# Altium footprint library Synthiam-roundtrip.PcbLib: 483 footprints (part 30 of 31)
Each footprint in its own frame and in the unit in brackets; x right, y up, seen from the top. Pads: shape width x height; smd on the part's side, far side on the other; paste and mask are expansions set on the pad; w line width, h text height; cw(c..) or ccw(c..) is an arc to the next point about the centre after c.
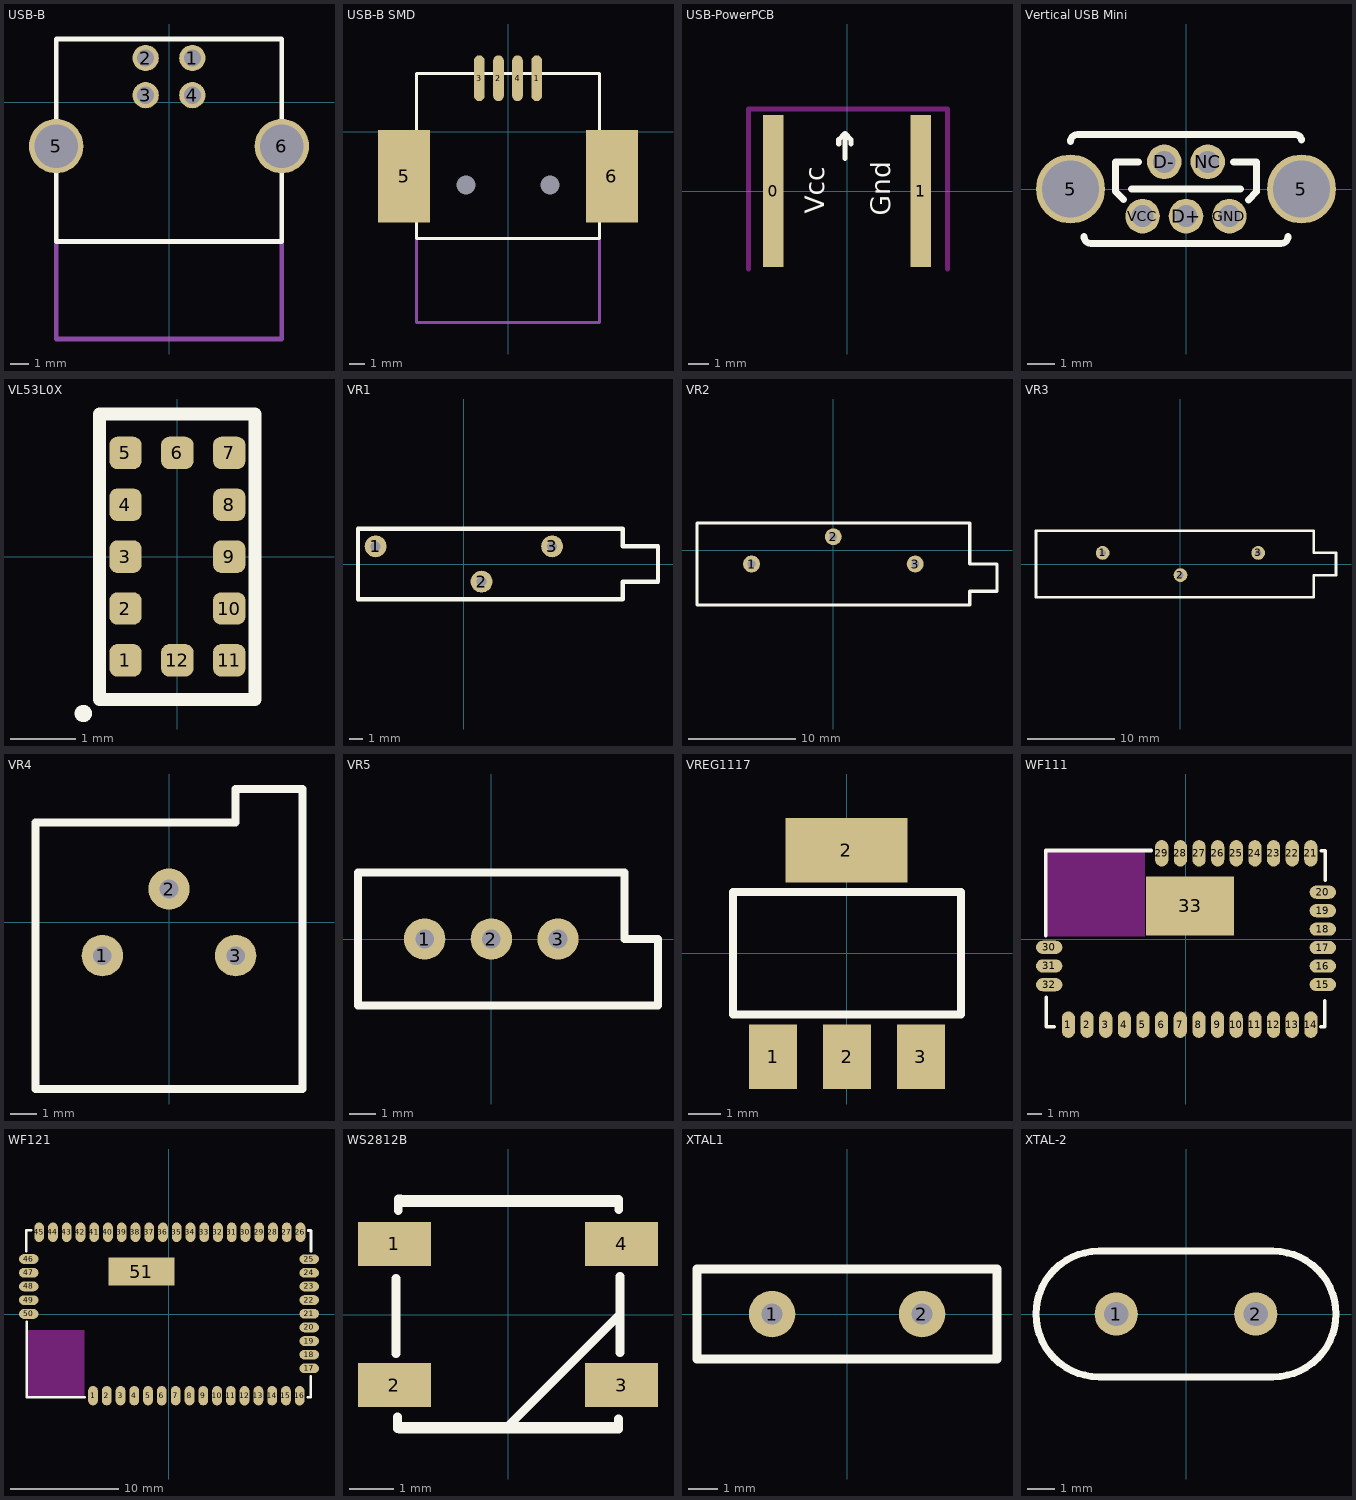
[diagram p29: the footprints below, top view; thin cyan lines are the x and y axes]

## USB-B [mil]
pads (6):
  round 55 hole 36: 1(49,92.5) 2(-49,92.5) 3(-49,14.5) 4(49,14.5)
  round 114.17 hole 91: 5(-237,-92.5) 6(237,-92.5)
Top Overlay:
  lines w10: -237,-292.5 -237,132.5 237,132.5 237,-292.5 -237,-292.5
Mechanical 1:
  lines w10: -237,-292.5 -237,-497.5 237,-497.5 237,-292.5

## USB-B SMD [mm]
pads (8):
  round 0 hole 1.25: 0(-2.75,-3.5) 0(2.75,-3.5)
  oval 0.7x3 smd: 1(1.875,3.5) 2(-0.625,3.5) 3(-1.875,3.5) 4(0.625,3.5)
  rect 3.4x6.04 smd: 5(-6.8,-2.92) 6(6.8,-2.92)
Top Overlay:
  lines w0.203: -6,-7 -6,3.8 6,3.8 6,-7 -6,-7
Mechanical 1:
  lines w0.203: -6,-7 -6,-12.5 6,-12.5 6,-7

## USB-PowerPCB [mm]
pads (2):
  rect 1x7.41 smd: 0(-3.6,0) 1(3.6,0)
Top Overlay:
  lines w0.254: -0.4,2.3 -0.4,2.5 -0.1,2.8 ; -0.1,1.6 -0.1,2.8 ; 0.2,2.3 0.2,2.5 -0.1,2.8
  text "Vcc" at -1.1,-1.1 h0.94
  text "Gnd" at 2.1,-1.2 h0.94
Keep-Out Layer:
  lines w0.254: -4.8,-3.8 -4.8,4 4.9,4 4.9,-3.8

## Vertical USB Mini [mm]
pads (7):
  round 2.54 hole 2.108: 5(-4.25,0) 5(4.25,0)
  round 1.27 hole 0.813: D+(0,-1) D-(-0.8,1) GND(1.6,-1) NC(0.8,1) VCC(-1.6,-1)
Top Overlay:
  lines w0.254: -4.25,1.75 cw(c-4,1.75) -4,2 4,2 cw(c4.025,1.775) 4.25,1.8 ; -3.75,-1.75 ccw(c-3.5,-1.75) -3.5,-2 3.5,-2 ccw(c3.5,-1.75) 3.75,-1.75 ; -2.6,-0.09 -2.6,1 ; -2.59,-0.09 -2.3,-0.38 ; -2.59,1 -1.75,1 ; -2,0 2,0 ; 1.75,1 2.6,1 2.6,-0.1 2.3,-0.4

## VL53L0X [mm]
pads (12):
  rrect50% 0.5x0.5 smd: 1(-0.8,-1.6) 2(-0.8,-0.8) 3(-0.8,0) 4(-0.8,0.8) 5(-0.8,1.6) 6(0,1.6) 7(0.8,1.6) 8(0.8,0.8) 9(0.8,0) 10(0.8,-0.8) 11(0.8,-1.6) 12(0,-1.6)
Top Overlay:
  circle w0.254: c-1.45,-2.42 r0.007
  lines w0.2: 1.195,2.2 -1.2,2.2 -1.2,-2.2 1.2,-2.2 1.2,2.185

## VR1 [mil]
pads (3):
  round 62 hole 28: 1(-250,50) 2(50,-50) 3(250,50)
Top Overlay:
  lines w12: -300,-100 450,-100 450,-50 550,-50 550,50 450,50 450,100 -300,100 -300,-100

## VR2 [mil]
pads (3):
  round 62 hole 28: 1(-300,-50) 2(0,50) 3(300,-50)
Top Overlay:
  lines w12: -500,-200 -500,100 500,100 500,-50 600,-50 600,-150 500,-150 500,-200 -500,-200

## VR3 [mil]
pads (3):
  round 62 hole 28: 1(-350,50) 2(0,-50) 3(350,50)
Top Overlay:
  lines w12: -650,-150 600,-150 600,-50 700,-50 700,50 600,50 600,150 -650,150 -650,-150

## VR4 [mil]
pads (3):
  round 62 hole 28: 1(-100,-50) 2(0,50) 3(100,-50)
Top Overlay:
  lines w12: -200,-250 -200,150 100,150 100,200 200,200 200,-250 -200,-250

## VR5 [mil]
pads (3):
  round 62 hole 28: 1(-100,0) 2(0,0) 3(100,0)
Top Overlay:
  lines w12: -200,-100 250,-100 250,0 200,0 200,100 -200,100 -200,-100

## VREG1117 [mil]
pads (4):
  rect 59x79 smd: 1(-90.55,-126.77) 2(0,-126.77) 3(90.55,-126.77)
  rect 150x79 smd: 2(-0.67,126.77)
Top Overlay:
  lines w10: -140,-74.77 140,-74.77 140,75.23 -140,75.23 -140,-74.77

## WF111 [mm]
pads (33):
  oval 0.9x1.8 smd: 1(-8.014,-5.835) 2(-6.74,-5.835) 3(-5.47,-5.835) 4(-4.2,-5.835) 5(-2.93,-5.835) 6(-1.66,-5.835) 7(-0.39,-5.835) 8(0.88,-5.835) 9(2.15,-5.835) 10(3.417,-5.838) 11(4.7,-5.835) 12(5.97,-5.835) 13(7.24,-5.835) 14(8.507,-5.838) 21(8.507,5.838) 22(7.237,5.838) 23(5.967,5.838) 24(4.697,5.838) 25(3.427,5.838) 26(2.157,5.838) 27(0.887,5.838) 28(-0.383,5.838) 29(-1.653,5.838)
  oval 1.8x0.9 smd: 15(9.32,-3.108) 16(9.32,-1.848) 17(9.32,-0.588) 18(9.32,0.672) 19(9.32,1.932) 20(9.32,3.192) 30(-9.32,-0.568) 31(-9.32,-1.838) 32(-9.32,-3.112)
  rect 6x4 smd: 33(0.287,2.248)
Top Layer:
  lines w0.254: 8.507,5.798 8.537,5.828
Top Overlay:
  lines w0.254: -9.553,0.228 -9.553,6.028 -2.373,6.028 ; -9.513,-3.972 -9.513,-5.982 -8.993,-5.982 ; 9.187,-5.982 9.447,-5.982 9.447,-4.232 ; 9.237,6.018 9.487,6.018 9.487,4.008
Keep-Out Layer:
  rectangle: -9.493,0.158 -2.793,5.958

## WF121 [mm]
pads (51):
  oval 0.9x1.8 smd: 1(-7.018,-7.541) 2(-5.748,-7.541) 3(-4.478,-7.541) 4(-3.208,-7.541) 5(-1.938,-7.541) 6(-0.671,-7.545) 7(0.612,-7.541) 8(1.897,-7.541) 9(3.167,-7.541) 10(4.437,-7.541) 11(5.707,-7.541) 12(6.975,-7.545) 13(8.257,-7.541) 14(9.527,-7.541) 15(10.797,-7.541) 16(12.065,-7.545) 26(12.14,7.542) 27(10.87,7.542) 28(9.6,7.542) 29(8.33,7.542) 30(7.06,7.542) 31(5.79,7.542) 32(4.52,7.542) 33(3.25,7.542) 34(1.979,7.545) 35(0.709,7.545) 36(-0.561,7.545) 37(-1.831,7.545) 38(-3.101,7.545) 39(-4.371,7.545) 40(-5.641,7.545) 41(-6.911,7.545) 42(-8.181,7.545) 43(-9.451,7.545) 44(-10.721,7.545) 45(-11.991,7.545)
  oval 1.8x0.9 smd: 17(12.953,-5.018) 18(12.953,-3.758) 19(12.953,-2.498) 20(12.953,-1.238) 21(12.953,0.022) 22(12.952,1.283) 23(12.952,2.543) 24(12.952,3.803) 25(12.952,5.063) 46(-12.953,5.078) 47(-12.953,3.808) 48(-12.953,2.548) 49(-12.953,1.278) 50(-12.953,0.004)
  rect 6.1x2.6 smd: 51(-2.541,3.924)
Top Overlay:
  lines w0.254: -13.187,5.829 -13.187,7.732 -12.752,7.732 ; -13.147,-0.75 -13.147,-7.688 -7.774,-7.688 ; 12.82,-7.688 13.08,-7.688 13.08,-5.779 ; 12.87,7.722 13.12,7.722 13.12,5.804
Keep-Out Layer:
  rectangle: -13.127,-7.688 -7.827,-1.488

## WS2812B [mm]
pads (4):
  rect 1.651x1 smd: 1(-2.577,1.6) 2(-2.577,-1.6) 3(2.577,-1.6) 4(2.577,1.6)
Top Overlay:
  lines w0.127: -2.5,-2.5 2.5,-2.5 ; -2.5,2.5 2.5,2.5
  lines w0.203: -2.54,-0.889 -2.54,0.813 ; -2.51,-2.319 -2.51,-2.591 -2.459,-2.591 -2.459,-2.593 2.51,-2.593 2.51,-2.367 ; -2.489,2.362 -2.489,2.616 -2.438,2.616 -2.438,2.611 2.512,2.611 2.512,2.38 ; 0,-2.54 2.54,0 ; 2.54,-0.864 2.54,0 ; 2.54,0.864 2.54,0

## XTAL1 [mil]
pads (2):
  round 62 hole 28: 1(-100,0) 2(100,0)
Top Overlay:
  lines w12: -200,-60 -200,60 200,60 200,-60 -200,-60

## XTAL-2 [mil]
pads (2):
  round 62 hole 35: 1(-100,0) 2(100,0)
Top Overlay:
  lines w10: -125,-90 cw(c-125,0) -125,90 125,90 cw(c125,0) 125,-90 -125,-90